# Altium footprint library MDIP_0.4_6.PcbLib: 1 footprints
Each footprint in its own frame and in the unit in brackets; x right, y up, seen from the top. Pads: shape width x height; smd on the part's side, far side on the other; paste and mask are expansions set on the pad; w line width, h text height; cw(c..) or ccw(c..) is an arc to the next point about the centre after c.
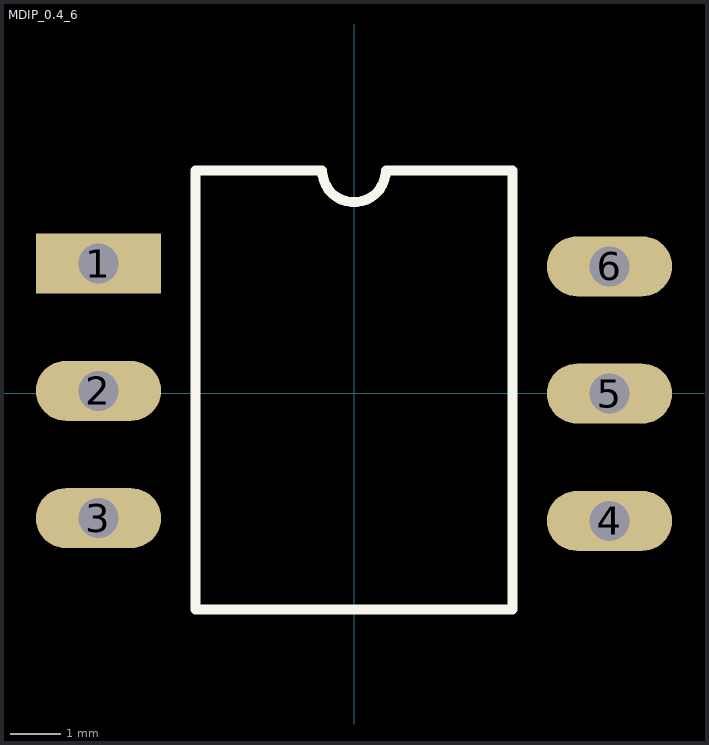
[diagram p0: the footprint, top view; thin cyan lines are the x and y axes]

## MDIP_0.4_6 [mm]
pads (6):
  rect 2.5x1.2 hole 0.8: 1(-5.1,2.585)
  oval 2.5x1.2 hole 0.8: 2(-5.1,0.045) 3(-5.1,-2.495) 4(5.1,-2.55) 5(5.1,-0.01) 6(5.1,2.53)
Top Overlay:
  lines w0.2: -3.165,-4.318 -3.165,4.445 -0.635,4.445 ccw(c0,4.445) 0.635,4.445 3.165,4.445 3.165,-4.318 -3.165,-4.318
3D body "DIP_6_10.16.stp": height 4, standoff -3.25, extent -5.23,-4.355 5.23,4.445